# EAGLE library part DS1307 (library _allyourbase)
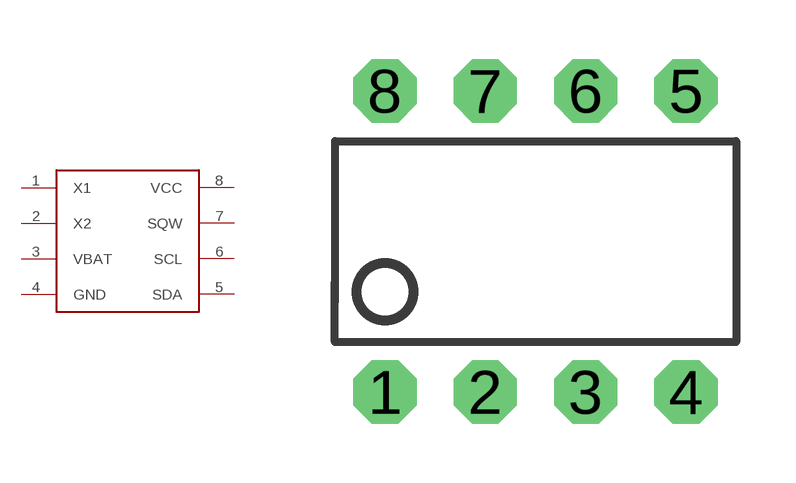
[diagram p4: symbol with the pads of DIP08; footprint DIP08]

Designator prefix -

## DS1307DS1307  [DIP08]
1  X1
2  X2
3  VBAT
4  GND
5  SDA
6  SCL
7  SQW
8  VCC

## Footprint DIP08 (pad centres in mm)
Dual In Line
drill 0.813 pad 1.6 octagon: 1 -3.81,-3.81; 2 -1.27,-3.81; 3 1.27,-3.81; 4 3.81,-3.81; 5 3.81,3.81; 6 1.27,3.81; 7 -1.27,3.81; 8 -3.81,3.81